# EAGLE library part MTA12-156 (library con-hirose-dxlm)
AMP connector
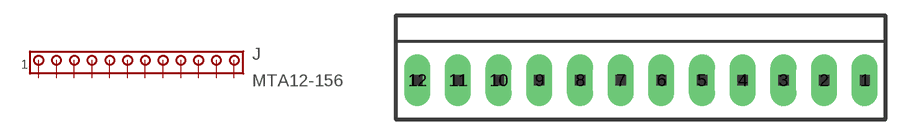
[diagram p117: symbol with the pads of 1X12MTA; footprint 1X12MTA]

Designator prefix J

## MTA12-156  [1X12MTA]
1  1  pas
2  2  pas
3  3  pas
4  4  pas
5  5  pas
6  6  pas
7  7  pas
8  8  pas
9  9  pas
10  10  pas
11  11  pas
12  12  pas

## Footprint 1X12MTA (pad centres in mm)
AMP MTA connector
drill 1.676 long: 1 21.793,0; 2 17.831,0; 3 13.868,0; 4 9.906,0; 5 5.944,0; 6 1.981,0; 7 -1.981,0; 8 -5.944,0; 9 -9.906,0; 10 -13.868,0; 11 -17.831,0; 12 -21.793,0